# Altium footprint library E2S_E2S_031_V1.PcbLib: 1 footprints
Each footprint in its own frame and in the unit in brackets; x right, y up, seen from the top. Pads: shape width x height; smd on the part's side, far side on the other; paste and mask are expansions set on the pad; w line width, h text height; cw(c..) or ccw(c..) is an arc to the next point about the centre after c.
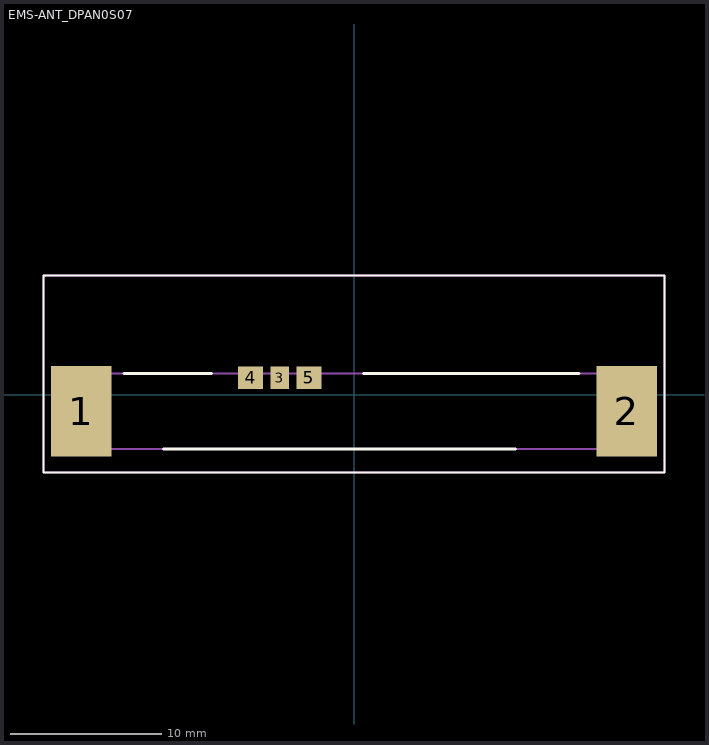
[diagram p0: the footprint, top view; thin cyan lines are the x and y axes]

## EMS-ANT_DPAN0S07 [mm]
height 5
pads (5):
  rect 4x6 smd: 1(-18,-1.101) 2(18,-1.101)
  rect 1.2x1.5 smd: 3(-4.9,1.101)
  rect 1.65x1.5 smd: 4(-6.825,1.101) 5(-2.975,1.101)
Top Overlay:
  lines w0.127: -20.5,-5.149 20.5,-5.149 20.5,7.851 -20.5,7.851 -20.5,-5.149
  lines w0.203: -15.184,1.399 -9.398,1.399 ; -12.573,-3.601 10.668,-3.601 ; 0.635,1.397 14.859,1.399
Mechanical 1:
  text "'.Designator'" at -1.824,-1.457 h1.52
Mechanical 13:
  lines w0.127: -20.5,-5.149 -20.5,7.851 20.5,7.851 20.5,-5.149 -20.5,-5.149
Mechanical 15:
  lines w0.127: -18.5,-3.601 -18.5,1.399 18.5,1.399 18.5,-3.601 -18.5,-3.601
Multi-Layer:
  pour cut-out: -0.152,0.365 -0.152,7.92 -20.447,7.92 -20.447,-5.207 20.447,-5.207 20.447,7.92 2.692,7.92 2.692,0.365
3D body: height 5, standoff 0, extent -18.542,-3.601 18.542,1.399